# Altium footprint library Mosfets SMD.PcbLib: 6 footprints
Each footprint in its own frame and in the unit in brackets; x right, y up, seen from the top. Pads: shape width x height; smd on the part's side, far side on the other; paste and mask are expansions set on the pad; w line width, h text height; cw(c..) or ccw(c..) is an arc to the next point about the centre after c.
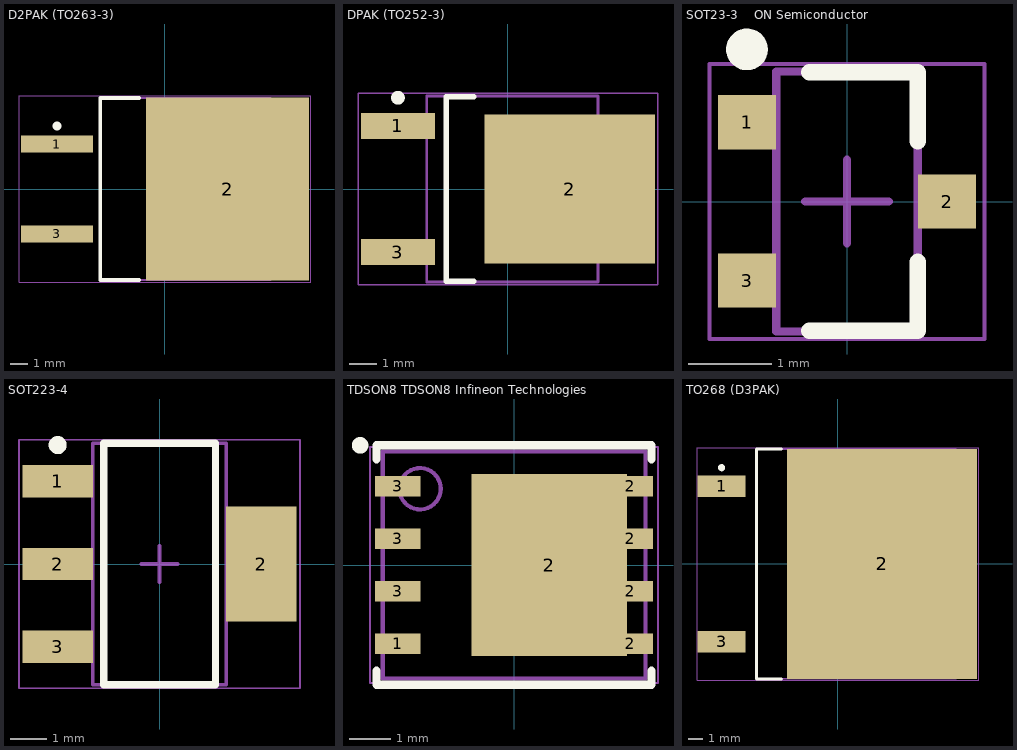
[diagram p0: the footprints below, top view; thin cyan lines are the x and y axes]

## D2PAK (TO263-3) [mm]
height 4.83
pads (3):
  rect 4.1x0.95 smd: 1(-6.1,2.54) 3(-6.1,-2.54)
  rect 9.2x10.35 smd: 2(3.55,0)
Top Overlay:
  circle w0.25: c-6.1,3.565 r0.125
  lines w0.2: -1.45,-5.15 -3.65,-5.15 -3.65,5.15 -1.45,5.15
Mechanical 13:
  lines w0.1: -3.65,-5.15 6,-5.15 6,5.15 -3.65,5.15 -3.65,-5.15
Mechanical 15:
  lines w0.05: -8.25,-5.275 8.25,-5.275 8.25,5.275 -8.25,5.275 -8.25,-5.275
  lines w0.1: -0.5,0 0.5,0 ; 0,-0.5 0,0.5
  text "'.Designator'" at -7.9,0 h0.8
3D body: height 4.83, standoff 0.25, extent -3.65,-5.15 6,5.15

## DPAK (TO252-3) [mm]
height 2.39
pads (3):
  rect 2.7x0.95 smd: 1(-4,2.29) 3(-4,-2.29)
  rect 6.2x5.4 smd: 2(2.25,0)
Top Overlay:
  circle w0.25: c-4,3.315 r0.125
  lines w0.2: -1.25,-3.35 -2.25,-3.35 -2.25,3.35 -1.25,3.35
Mechanical 13:
  lines w0.1: -2.95,-3.375 3.27,-3.375 3.27,3.375 -2.95,3.375 -2.95,-3.375
Mechanical 15:
  lines w0.05: -5.45,-3.475 5.45,-3.475 5.45,3.475 -5.45,3.475 -5.45,-3.475
  lines w0.1: -0.5,0 0.5,0 ; 0,-0.5 0,0.5
  text "'.Designator'" at -5.3,0.125 h0.6
3D body: height 2.39, standoff 0.01, extent -2.95,-3.375 3.27,3.375

## SOT23-3    ON Semiconductor [mm] "SOT23, 3-Leads, Body 2.92x2.55mm, Pitch 0.95mm, IPC High Density"
height 1.2
pads (3):
  rect 0.7x0.65 smd: 1(-1.2,0.95) 2(1.2,0) 3(-1.2,-0.95)
Top Overlay:
  circle w0.25: c-1.2,1.825 r0.125
  lines w0.2: -0.45,-1.55 0.85,-1.55 0.85,-0.725 ; -0.45,1.55 0.85,1.55 0.85,0.725
Mechanical 13:
  lines w0.1: -0.85,-1.56 0.85,-1.56 0.85,1.56 -0.85,1.56 -0.85,-1.56
Mechanical 15:
  lines w0.05: -1.65,-1.65 1.65,-1.65 1.65,1.65 -1.65,1.65 -1.65,-1.65
  lines w0.1: -0.5,0 0.5,0 ; 0,-0.5 0,0.5
  text "'.Designator'" at -1.6,0.2 h0.3
3D body: height 1.2, standoff 0.1, extent -0.85,-1.56 0.85,1.56

## SOT223-4 [mm] "SOT223, 4-Leads, Body 6.50x7.00mm (avg), Pitch 2.30mm, IPC High Density"
height 1.8
pads (4):
  rect 1.95x0.9 smd: 1(-2.825,2.3) 2(-2.825,0) 3(-2.825,-2.3)
  rect 1.95x3.2 smd: 2(2.825,0)
Top Overlay:
  circle w0.25: c-2.825,3.3 r0.125
  lines w0.2: -1.55,-3.35 1.55,-3.35 1.55,3.35 -1.55,3.35 -1.55,-3.35
Mechanical 13:
  lines w0.1: -1.85,-3.35 1.85,-3.35 1.85,3.35 -1.85,3.35 -1.85,-3.35
Mechanical 15:
  lines w0.05: -3.9,-3.45 3.9,-3.45 3.9,3.45 -3.9,3.45 -3.9,-3.45
  lines w0.1: -0.5,0 0.5,0 ; 0,-0.5 0,0.5
  text "'.Designator'" at -1.3,2.1 h1
3D body: height 1.8, standoff 0.02, extent -1.85,-3.35 1.85,3.35

## TDSON8 TDSON8 Infineon Technologies [mm] "SON, 8-Leads, Body 5.32x6.15mm, Pitch 1.27mm, IPC High Density"
height 1.1
pads (9):
  rect 1.1x0.5 smd: 1(-2.81,-1.905) 2(2.81,-1.905) 2(2.81,-0.635) 2(2.81,0.635) 2(2.81,1.905) 3(-2.81,-0.635) 3(-2.81,0.635) 3(-2.81,1.905)
  rect 3.75x4.41 smd: 2(0.85,0)
Top Overlay:
  circle w0.3: c-3.725,2.895 r0.05
  lines w0.2: -3.325,-2.555 -3.325,-2.895 3.325,-2.895 3.325,-2.555 ; -3.325,2.555 -3.325,2.895 3.325,2.895 3.325,2.555
Mechanical 13:
  circle w0.1: c-2.275,1.845 r0.5
  lines w0.1: -3.175,-2.745 -3.175,2.745 3.175,2.745 3.175,-2.745 -3.175,-2.745
Mechanical 15:
  lines w0.05: -3.48,-2.85 -3.48,2.85 3.48,2.85 3.48,-2.85 -3.48,-2.85
  lines w0.1: -0.5,0 0.5,0 ; 0,-0.5 0,0.5
  text "'.Designator'" at -3.075,-0.15 h0.4
3D body: height 1.1, standoff 0.35, extent -3.175,-2.745 3.175,2.745

## TO268 (D3PAK) [mm]
height 5.1
pads (3):
  rect 3.35x1.5 smd: 1(-8.15,5.45) 3(-8.15,-5.45)
  rect 13.3x16.1 smd: 2(3.1,0)
Top Overlay:
  circle w0.25: c-8.15,6.75 r0.125
  lines w0.2: -3.95,-8.05 -5.7,-8.05 -5.7,8.05 -3.95,8.05
Mechanical 13:
  lines w0.1: -5.7,-8.025 -5.7,8.025 8.3,8.025 8.3,-8.025 -5.7,-8.025
Mechanical 15:
  lines w0.05: -9.875,-8.15 -9.875,8.15 9.875,8.15 9.875,-8.15 -9.875,-8.15
  lines w0.1: -0.5,0 0.5,0 ; 0,-0.5 0,0.5
  text "'.Designator'" at -9.675,-0.05 h1
3D body: height 5.1, standoff 0.25, extent -5.7,-8.025 8.3,8.025